# Altium schematic symbol library Bridge1.Schlib: 1 symbol
Pins are listed as number, name and electrical type; pins without a type are passive.

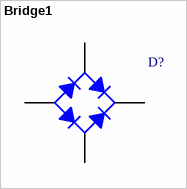
[diagram p0: symbol Bridge1]

## Bridge1
designator D?
Full Wave Diode Bridge
pins: 1 K, 2 C, 3 A, 4 C